# Altium footprint library IC_SMT.PcbLib: 81 footprints (part 2 of 6)
Each footprint in its own frame and in the unit in brackets; x right, y up, seen from the top. Pads: shape width x height; smd on the part's side, far side on the other; paste and mask are expansions set on the pad; w line width, h text height; cw(c..) or ccw(c..) is an arc to the next point about the centre after c.
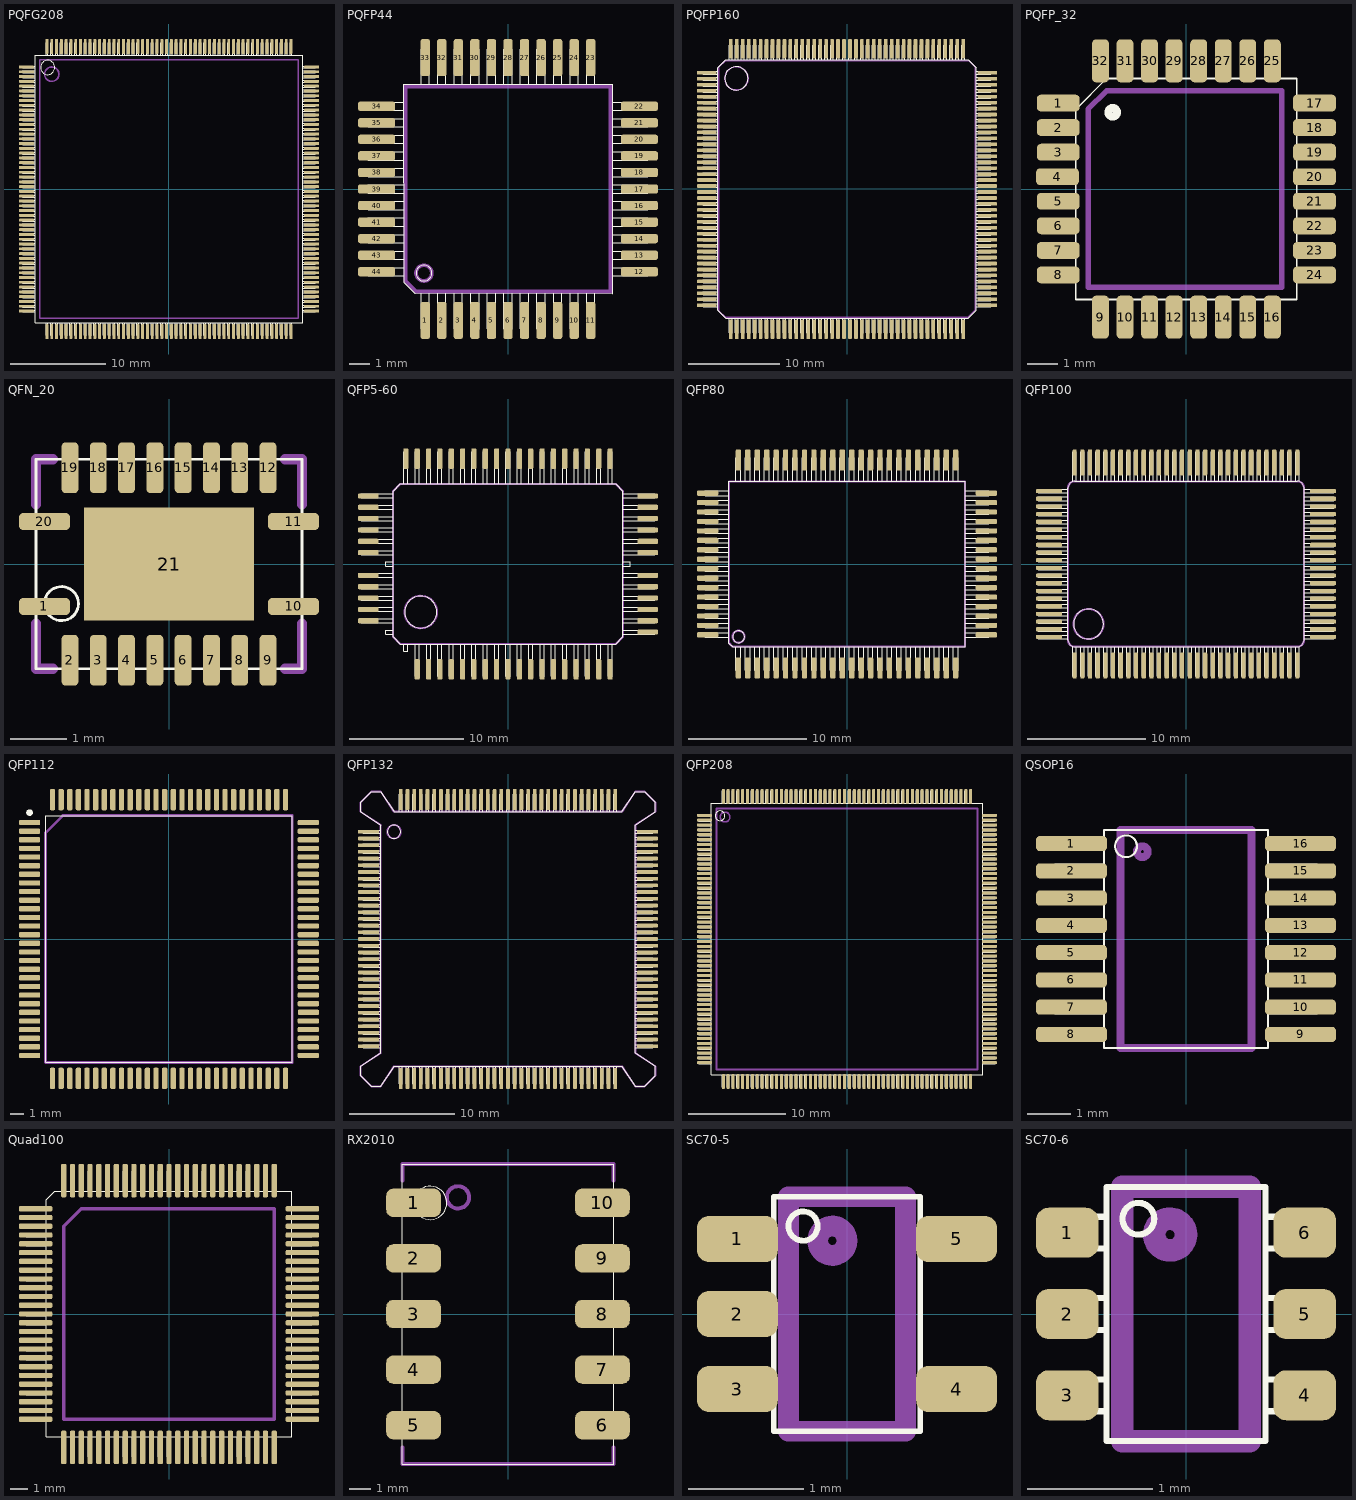
[diagram p1: the footprints below, top view; thin cyan lines are the x and y axes]

## PQFG208 [mm] "208-Pin Plastic Quad Flat Pack (PQG208) - Pb-Free"
height 4.1
pads (208):
  rrect50% 1.55x0.3 smd: 1(-14.9,12.75) 2(-14.9,12.25) 3(-14.9,11.75) 4(-14.9,11.25) 5(-14.9,10.75) 6(-14.9,10.25) 7(-14.9,9.75) 8(-14.9,9.25) 9(-14.9,8.75) 10(-14.9,8.25) 11(-14.9,7.75) 12(-14.9,7.25) 13(-14.9,6.75) 14(-14.9,6.25) 15(-14.9,5.75) 16(-14.9,5.25) 17(-14.9,4.75) 18(-14.9,4.25) 19(-14.9,3.75) 20(-14.9,3.25) 21(-14.9,2.75) 22(-14.9,2.25) 23(-14.9,1.75) 24(-14.9,1.25) 25(-14.9,0.75) 26(-14.9,0.25) 27(-14.9,-0.25) 28(-14.9,-0.75) 29(-14.9,-1.25) 30(-14.9,-1.75) 31(-14.9,-2.25) 32(-14.9,-2.75) 33(-14.9,-3.25) 34(-14.9,-3.75) 35(-14.9,-4.25) 36(-14.9,-4.75) 37(-14.9,-5.25) 38(-14.9,-5.75) 39(-14.9,-6.25) 40(-14.9,-6.75) 41(-14.9,-7.25) 42(-14.9,-7.75) 43(-14.9,-8.25) 44(-14.9,-8.75) 45(-14.9,-9.25) 46(-14.9,-9.75) 47(-14.9,-10.25) 48(-14.9,-10.75) 49(-14.9,-11.25) 50(-14.9,-11.75) 51(-14.9,-12.25) 52(-14.9,-12.75) 105(14.9,-12.75) 106(14.9,-12.25) 107(14.9,-11.75) 108(14.9,-11.25) 109(14.9,-10.75) 110(14.9,-10.25) 111(14.9,-9.75) 112(14.9,-9.25) 113(14.9,-8.75) 114(14.9,-8.25) 115(14.9,-7.75) 116(14.9,-7.25) 117(14.9,-6.75) 118(14.9,-6.25) 119(14.9,-5.75) 120(14.9,-5.25) 121(14.9,-4.75) 122(14.9,-4.25) 123(14.9,-3.75) 124(14.9,-3.25) 125(14.9,-2.75) 126(14.9,-2.25) 127(14.9,-1.75) 128(14.9,-1.25) 129(14.9,-0.75) 130(14.9,-0.25) 131(14.9,0.25) 132(14.9,0.75) 133(14.9,1.25) 134(14.9,1.75) 135(14.9,2.25) 136(14.9,2.75) 137(14.9,3.25) 138(14.9,3.75) 139(14.9,4.25) 140(14.9,4.75) 141(14.9,5.25) 142(14.9,5.75) 143(14.9,6.25) 144(14.9,6.75) 145(14.9,7.25) 146(14.9,7.75) 147(14.9,8.25) 148(14.9,8.75) 149(14.9,9.25) 150(14.9,9.75) 151(14.9,10.25) 152(14.9,10.75) 153(14.9,11.25) 154(14.9,11.75) 155(14.9,12.25) 156(14.9,12.75)
  rrect50% 0.3x1.55 smd: 53(-12.75,-14.9) 54(-12.25,-14.9) 55(-11.75,-14.9) 56(-11.25,-14.9) 57(-10.75,-14.9) 58(-10.25,-14.9) 59(-9.75,-14.9) 60(-9.25,-14.9) 61(-8.75,-14.9) 62(-8.25,-14.9) 63(-7.75,-14.9) 64(-7.25,-14.9) 65(-6.75,-14.9) 66(-6.25,-14.9) 67(-5.75,-14.9) 68(-5.25,-14.9) 69(-4.75,-14.9) 70(-4.25,-14.9) 71(-3.75,-14.9) 72(-3.25,-14.9) 73(-2.75,-14.9) 74(-2.25,-14.9) 75(-1.75,-14.9) 76(-1.25,-14.9) 77(-0.75,-14.9) 78(-0.25,-14.9) 79(0.25,-14.9) 80(0.75,-14.9) 81(1.25,-14.9) 82(1.75,-14.9) 83(2.25,-14.9) 84(2.75,-14.9) 85(3.25,-14.9) 86(3.75,-14.9) 87(4.25,-14.9) 88(4.75,-14.9) 89(5.25,-14.9) 90(5.75,-14.9) 91(6.25,-14.9) 92(6.75,-14.9) 93(7.25,-14.9) 94(7.75,-14.9) 95(8.25,-14.9) 96(8.75,-14.9) 97(9.25,-14.9) 98(9.75,-14.9) 99(10.25,-14.9) 100(10.75,-14.9) 101(11.25,-14.9) 102(11.75,-14.9) 103(12.25,-14.9) 104(12.75,-14.9) 157(12.75,14.9) 158(12.25,14.9) 159(11.75,14.9) 160(11.25,14.9) 161(10.75,14.9) 162(10.25,14.9) 163(9.75,14.9) 164(9.25,14.9) 165(8.75,14.9) 166(8.25,14.9) 167(7.75,14.9) 168(7.25,14.9) 169(6.75,14.9) 170(6.25,14.9) 171(5.75,14.9) 172(5.25,14.9) 173(4.75,14.9) 174(4.25,14.9) 175(3.75,14.9) 176(3.25,14.9) 177(2.75,14.9) 178(2.25,14.9) 179(1.75,14.9) 180(1.25,14.9) 181(0.75,14.9) 182(0.25,14.9) 183(-0.25,14.9) 184(-0.75,14.9) 185(-1.25,14.9) 186(-1.75,14.9) 187(-2.25,14.9) 188(-2.75,14.9) 189(-3.25,14.9) 190(-3.75,14.9) 191(-4.25,14.9) 192(-4.75,14.9) 193(-5.25,14.9) 194(-5.75,14.9) 195(-6.25,14.9) 196(-6.75,14.9) 197(-7.25,14.9) 198(-7.75,14.9) 199(-8.25,14.9) 200(-8.75,14.9) 201(-9.25,14.9) 202(-9.75,14.9) 203(-10.25,14.9) 204(-10.75,14.9) 205(-11.25,14.9) 206(-11.75,14.9) 207(-12.25,14.9) 208(-12.75,14.9)
Top Overlay:
  drawing of 629 lines, arcs and shapes, not listed
Comp Silk:
  circle w0.18: c-12.25,12 r0.75
  lines w0.18: -13.5,-13.5 13.5,-13.5 13.5,13.5 -13.5,13.5 -13.5,-13.5
  text ".Designator" at -6,9 h1.5

## PQFP44 [mm]
height 2.54
pads (44):
  rrect50% 0.45x1.8 smd paste+0: 1(-4,-6.35) 2(-3.2,-6.35) 3(-2.4,-6.35) 4(-1.6,-6.35) 5(-0.8,-6.35) 6(0,-6.35) 7(0.8,-6.35) 8(1.6,-6.35) 9(2.4,-6.35) 10(3.2,-6.35) 11(4,-6.35) 23(4,6.35) 24(3.2,6.35) 25(2.4,6.35) 26(1.6,6.35) 27(0.8,6.35) 28(0,6.35) 29(-0.8,6.35) 30(-1.6,6.35) 31(-2.4,6.35) 32(-3.2,6.35) 33(-4,6.35)
  rrect50% 1.8x0.45 smd paste+0: 12(6.35,-4) 13(6.35,-3.2) 14(6.35,-2.4) 15(6.35,-1.6) 16(6.35,-0.8) 17(6.35,0) 18(6.35,0.8) 19(6.35,1.6) 20(6.35,2.4) 21(6.35,3.2) 22(6.35,4) 34(-6.35,4) 35(-6.35,3.2) 36(-6.35,2.4) 37(-6.35,1.6) 38(-6.35,0.8) 39(-6.35,0) 40(-6.35,-0.8) 41(-6.35,-1.6) 42(-6.35,-2.4) 43(-6.35,-3.2) 44(-6.35,-4)
Top Overlay:
  lines w0.05: -5.05,-4.2 -6.75,-4.2 -6.75,-3.8 -5.05,-3.8 ; -5.05,-3.4 -6.75,-3.4 -6.75,-3 -5.05,-3 ; -5.05,-2.6 -6.75,-2.6 -6.75,-2.2 -5.05,-2.2 ; -5.05,-1.8 -6.75,-1.8 -6.75,-1.4 -5.05,-1.4 ; -5.05,-1 -6.75,-1 -6.75,-0.6 -5.05,-0.6 ; -5.05,-0.2 -6.75,-0.2 -6.75,0.2 -5.05,0.2 ; -5.05,0.6 -6.75,0.6 -6.75,1 -5.05,1 ; -5.05,1.4 -6.75,1.4 -6.75,1.8 -5.05,1.8 ; -5.05,2.2 -6.75,2.2 -6.75,2.6 -5.05,2.6 ; -5.05,3 -6.75,3 -6.75,3.4 -5.05,3.4 ; -5.05,3.8 -6.75,3.8 -6.75,4.2 -5.05,4.2 ; -4.2,-5.05 -4.2,-6.75 -3.8,-6.75 -3.8,-5.05 ; -4.2,5.05 -4.2,6.75 -3.8,6.75 -3.8,5.05 ; -3.4,-5.05 -3.4,-6.75 -3,-6.75 -3,-5.05 ; -3.4,5.05 -3.4,6.75 -3,6.75 -3,5.05 ; -2.6,-5.05 -2.6,-6.75 -2.2,-6.75 -2.2,-5.05 ; -2.6,5.05 -2.6,6.75 -2.2,6.75 -2.2,5.05 ; -1.8,-5.05 -1.8,-6.75 -1.4,-6.75 -1.4,-5.05 ; -1.8,5.05 -1.8,6.75 -1.4,6.75 -1.4,5.05 ; -1,-5.05 -1,-6.75 -0.6,-6.75 -0.6,-5.05 ; -1,5.05 -1,6.75 -0.6,6.75 -0.6,5.05 ; -0.2,-5.05 -0.2,-6.75 0.2,-6.75 0.2,-5.05 ; -0.2,5.05 -0.2,6.75 0.2,6.75 0.2,5.05 ; 0.6,-5.05 0.6,-6.75 1,-6.75 1,-5.05 ; 0.6,5.05 0.6,6.75 1,6.75 1,5.05 ; 1.4,-5.05 1.4,-6.75 1.8,-6.75 1.8,-5.05 ; 1.4,5.05 1.4,6.75 1.8,6.75 1.8,5.05 ; 2.2,-5.05 2.2,-6.75 2.6,-6.75 2.6,-5.05 ; 2.2,5.05 2.2,6.75 2.6,6.75 2.6,5.05 ; 3,-5.05 3,-6.75 3.4,-6.75 3.4,-5.05 ; 3,5.05 3,6.75 3.4,6.75 3.4,5.05 ; 3.8,-5.05 3.8,-6.75 4.2,-6.75 4.2,-5.05 ; 3.8,5.05 3.8,6.75 4.2,6.75 4.2,5.05 ; 5.05,-4.2 6.75,-4.2 6.75,-3.8 5.05,-3.8 ; 5.05,-3.4 6.75,-3.4 6.75,-3 5.05,-3 ; 5.05,-2.6 6.75,-2.6 6.75,-2.2 5.05,-2.2 ; 5.05,-1.8 6.75,-1.8 6.75,-1.4 5.05,-1.4 ; 5.05,-1 6.75,-1 6.75,-0.6 5.05,-0.6 ; 5.05,-0.2 6.75,-0.2 6.75,0.2 5.05,0.2 ; 5.05,0.6 6.75,0.6 6.75,1 5.05,1 ; 5.05,1.4 6.75,1.4 6.75,1.8 5.05,1.8 ; 5.05,2.2 6.75,2.2 6.75,2.6 5.05,2.6 ; 5.05,3 6.75,3 6.75,3.4 5.05,3.4 ; 5.05,3.8 6.75,3.8 6.75,4.2 5.05,4.2 ; -5.055,5.055 -5.05,-4.5 -4.5,-5.05 5.055,-5.055 5.055,5.055 -5.055,5.055 ; -4.064,-4.445 cw(c-4.064,-4.064) -4.064,-3.683 cw(c-4.064,-4.064) -4.064,-4.445
Comp Silk:
  lines w0.18: -4.953,-4.445 -4.445,-4.953 4.953,-4.953 4.953,4.953 -4.953,4.953 -4.953,-4.445 ; -4.064,-4.445 ccw(c-4.064,-4.064) -4.064,-3.683 ccw(c-4.064,-4.064) -4.064,-4.445
  text ".Designator" at -3.81,2.667 h1.5

## PQFP160 [mm]
height 4.191
pads (160):
  rrect50% 2.1x0.4 smd paste+0: 1(-15.316,12.675) 2(-15.316,12.025) 3(-15.316,11.375) 4(-15.316,10.725) 5(-15.316,10.075) 6(-15.316,9.425) 7(-15.316,8.775) 8(-15.316,8.125) 9(-15.316,7.475) 10(-15.316,6.825) 11(-15.316,6.175) 12(-15.316,5.525) 13(-15.316,4.875) 14(-15.316,4.225) 15(-15.316,3.575) 16(-15.316,2.925) 17(-15.316,2.275) 18(-15.316,1.625) 19(-15.316,0.975) 20(-15.316,0.325) 21(-15.316,-0.325) 22(-15.316,-0.975) 23(-15.316,-1.625) 24(-15.316,-2.275) 25(-15.316,-2.925) 26(-15.316,-3.575) 27(-15.316,-4.225) 28(-15.316,-4.875) 29(-15.316,-5.525) 30(-15.316,-6.175) 31(-15.316,-6.825) 32(-15.316,-7.475) 33(-15.316,-8.125) 34(-15.316,-8.775) 35(-15.316,-9.425) 36(-15.316,-10.075) 37(-15.316,-10.725) 38(-15.316,-11.375) 39(-15.316,-12.025) 40(-15.316,-12.675) 81(15.308,-12.675) 82(15.308,-12.025) 83(15.308,-11.375) 84(15.308,-10.725) 85(15.308,-10.075) 86(15.308,-9.425) 87(15.308,-8.775) 88(15.308,-8.125) 89(15.308,-7.475) 90(15.308,-6.825) 91(15.308,-6.175) 92(15.308,-5.525) 93(15.308,-4.875) 94(15.308,-4.225) 95(15.308,-3.575) 96(15.308,-2.925) 97(15.308,-2.275) 98(15.308,-1.625) 99(15.308,-0.975) 100(15.308,-0.325) 101(15.308,0.325) 102(15.308,0.975) 103(15.308,1.625) 104(15.308,2.275) 105(15.308,2.925) 106(15.308,3.575) 107(15.308,4.225) 108(15.308,4.875) 109(15.308,5.525) 110(15.308,6.175) 111(15.308,6.825) 112(15.308,7.475) 113(15.308,8.125) 114(15.308,8.775) 115(15.308,9.425) 116(15.308,10.075) 117(15.308,10.725) 118(15.308,11.375) 119(15.308,12.025) 120(15.308,12.675)
  rrect50% 0.4x2.1 smd paste+0: 41(-12.679,-15.313) 42(-12.029,-15.313) 43(-11.379,-15.313) 44(-10.729,-15.313) 45(-10.079,-15.313) 46(-9.429,-15.313) 47(-8.779,-15.313) 48(-8.129,-15.313) 49(-7.479,-15.313) 50(-6.829,-15.313) 51(-6.179,-15.313) 52(-5.529,-15.313) 53(-4.879,-15.313) 54(-4.229,-15.313) 55(-3.579,-15.313) 56(-2.929,-15.313) 57(-2.279,-15.313) 58(-1.629,-15.313) 59(-0.979,-15.313) 60(-0.329,-15.313) 61(0.321,-15.313) 62(0.971,-15.313) 63(1.621,-15.313) 64(2.271,-15.313) 65(2.921,-15.313) 66(3.571,-15.313) 67(4.221,-15.313) 68(4.871,-15.313) 69(5.521,-15.313) 70(6.171,-15.313) 71(6.821,-15.313) 72(7.471,-15.313) 73(8.121,-15.313) 74(8.771,-15.313) 75(9.421,-15.313) 76(10.071,-15.313) 77(10.721,-15.313) 78(11.371,-15.313) 79(12.021,-15.313) 80(12.671,-15.313) 121(12.671,15.312) 122(12.021,15.312) 123(11.371,15.312) 124(10.721,15.312) 125(10.071,15.312) 126(9.421,15.312) 127(8.771,15.312) 128(8.121,15.312) 129(7.471,15.312) 130(6.821,15.312) 131(6.171,15.312) 132(5.521,15.312) 133(4.871,15.312) 134(4.221,15.312) 135(3.571,15.312) 136(2.921,15.312) 137(2.271,15.312) 138(1.621,15.312) 139(0.971,15.312) 140(0.321,15.312) 141(-0.329,15.312) 142(-0.979,15.312) 143(-1.629,15.312) 144(-2.279,15.312) 145(-2.929,15.312) 146(-3.579,15.312) 147(-4.229,15.312) 148(-4.879,15.312) 149(-5.529,15.312) 150(-6.179,15.312) 151(-6.829,15.312) 152(-7.479,15.312) 153(-8.129,15.312) 154(-8.779,15.312) 155(-9.429,15.312) 156(-10.079,15.312) 157(-10.729,15.312) 158(-11.379,15.312) 159(-12.029,15.312) 160(-12.679,15.312)
Top Overlay:
  drawing of 489 lines, arcs and shapes, not listed
Comp Silk:
  circle w0.18: c-12.065,12.065 r1.27
  lines w0.18: -14,-13.3 -13.3,-14 13.2,-14 14,-13.2 14,13.3 13.3,14 -13.3,14 -14,13.3 -14,-13.3
  text ".Designator" at -10.033,8.636 h1.5

## PQFP_32 [mm] "Texas 0.8mm 32 pin pitch plastic quad flatpack, Rev. 2"
height 1.6
pads (32):
  rrect50% 1.4x0.55 smd: 1(-4.175,2.8) 2(-4.175,2) 3(-4.175,1.2) 4(-4.2,0.4) 5(-4.175,-0.4) 6(-4.175,-1.2) 7(-4.175,-2) 8(-4.175,-2.8) 17(4.175,2.8) 18(4.175,2) 19(4.175,1.2) 20(4.175,0.4) 21(4.175,-0.4) 22(4.175,-1.2) 23(4.175,-2) 24(4.175,-2.8)
  rrect50% 0.55x1.4 smd: 9(-2.8,-4.175) 10(-2,-4.175) 11(-1.2,-4.175) 12(-0.4,-4.175) 13(0.4,-4.175) 14(1.2,-4.175) 15(2,-4.175) 16(2.8,-4.175) 25(2.8,4.175) 26(2,4.175) 27(1.2,4.175) 28(0.4,4.175) 29(-0.4,4.175) 30(-1.2,4.175) 31(-2,4.175) 32(-2.8,4.175)
Top Overlay:
  circle w0.254: c-2.4,2.5 r0.141
  lines w0.05: -3.6,-3.6 -3.6,2.6 -2.6,3.6 -0.6,3.6 3.6,3.6 3.6,-3.6 -3.6,-3.6
Comp Silk:
  lines w0.18: -3.2,-3.2 -3.2,2.6 -2.6,3.2 3.1,3.2 3.1,-3.2 -3.2,-3.2
  text ".Designator" at -2.6,-0.5 h1.5

## QFN_20 [mm]
height 1
pads (21):
  rrect50% 0.9x0.3 smd paste+0: 1(-2.2,-0.75) 10(2.2,-0.75) 11(2.2,0.75) 20(-2.2,0.75)
  rrect50% 0.3x0.9 smd paste+0: 2(-1.75,-1.7) 3(-1.25,-1.7) 4(-0.75,-1.7) 5(-0.25,-1.7) 6(0.25,-1.7) 7(0.75,-1.7) 8(1.25,-1.7) 9(1.75,-1.7) 12(1.75,1.7) 13(1.25,1.7) 14(0.75,1.7) 15(0.25,1.7) 16(-0.25,1.7) 17(-0.75,1.7) 18(-1.25,1.7) 19(-1.75,1.7)
  rect 3x2 all layers, no hole: 21(0,0)
Top Overlay:
  circle w0.05: c-1.9,-0.7 r0.3
  lines w0.05: -2.35,-1.85 2.35,-1.85 2.35,1.85 -2.35,1.85 -2.35,-1.85
Top Solder:
  rectangle: 1.55,-0.4 2.5,0.4
  rectangle: -2.5,-0.4 -1.55,0.4
Comp Silk:
  lines w0.18: -2.35,-1.05 -2.35,-1.85 -2.05,-1.85 ; -2.35,1.05 -2.35,1.85 -2.05,1.85 ; 2.05,-1.85 2.35,-1.85 2.35,-1.05 ; 2.05,1.85 2.35,1.85 2.35,1.05
  text ".Designator" at -1.8,-0.65 h1.5

## QFP5-60 [mm]
pads (60):
  rrect50% 1.8x0.45 smd paste+0: 1(-12.192,-0.991) 2(-12.192,-1.981) 3(-12.192,-2.972) 4(-12.192,-3.962) 5(-12.192,-4.953) 24(12.192,-5.944) 25(12.192,-4.953) 26(12.192,-3.962) 27(12.192,-2.972) 28(12.192,-1.981) 29(12.192,-0.991) 30(12.192,0.991) 31(12.192,1.981) 32(12.192,2.972) 33(12.192,3.962) 34(12.192,4.953) 35(12.192,5.944) 55(-12.192,5.944) 56(-12.192,4.953) 57(-12.192,3.962) 58(-12.192,2.972) 59(-12.192,1.981) 60(-12.192,0.991)
  rrect50% 0.45x1.8 smd paste+0: 6(-7.925,-9.195) 7(-6.934,-9.195) 8(-5.944,-9.195) 9(-4.953,-9.195) 10(-3.962,-9.195) 11(-2.972,-9.195) 12(-1.981,-9.195) 13(-0.991,-9.195) 14(0,-9.195) 15(0.991,-9.195) 16(1.981,-9.195) 17(2.972,-9.195) 18(3.962,-9.195) 19(4.953,-9.195) 20(5.944,-9.195) 21(6.934,-9.195) 22(7.925,-9.195) 23(8.915,-9.195) 36(8.915,9.195) 37(7.925,9.195) 38(6.934,9.195) 39(5.944,9.195) 40(4.953,9.195) 41(3.962,9.195) 42(2.972,9.195) 43(1.981,9.195) 44(0.991,9.195) 45(0,9.195) 46(-0.991,9.195) 47(-1.981,9.195) 48(-2.972,9.195) 49(-3.962,9.195) 50(-4.953,9.195) 51(-5.944,9.195) 52(-6.934,9.195) 53(-7.925,9.195) 54(-8.915,9.195)
Top Overlay:
  drawing of 202 lines, arcs and shapes, not listed
Comp Silk:
  circle w0.18: c-7.62,-4.191 r1.42
  lines w0.18: -10.033,-6.35 -10.033,6.35 -9.398,6.985 9.398,6.985 10.033,6.35 10.033,-6.35 9.398,-6.985 -9.398,-6.985 -10.033,-6.35
  text ".Designator" at -7.747,3.81 h1.5

## QFP80 [mm]
height 2.54
pads (80):
  rrect50% 0.45x1.8 smd paste+0: 1(-9.2,-8.8) 2(-8.4,-8.8) 3(-7.6,-8.8) 4(-6.8,-8.8) 5(-6,-8.8) 6(-5.2,-8.8) 7(-4.4,-8.8) 8(-3.6,-8.8) 9(-2.8,-8.8) 10(-2,-8.8) 11(-1.2,-8.8) 12(-0.4,-8.8) 13(0.4,-8.8) 14(1.2,-8.8) 15(2,-8.8) 16(2.8,-8.8) 17(3.6,-8.8) 18(4.4,-8.8) 19(5.2,-8.8) 20(6,-8.8) 21(6.8,-8.8) 22(7.6,-8.8) 23(8.4,-8.8) 24(9.2,-8.8) 41(9.2,8.8) 42(8.4,8.8) 43(7.6,8.8) 44(6.8,8.8) 45(6,8.8) 46(5.2,8.8) 47(4.4,8.8) 48(3.6,8.8) 49(2.8,8.8) 50(2,8.8) 51(1.2,8.8) 52(0.4,8.8) 53(-0.4,8.8) 54(-1.2,8.8) 55(-2,8.8) 56(-2.8,8.8) 57(-3.6,8.8) 58(-4.4,8.8) 59(-5.2,8.8) 60(-6,8.8) 61(-6.8,8.8) 62(-7.6,8.8) 63(-8.4,8.8) 64(-9.2,8.8)
  rrect50% 1.8x0.45 smd paste+0: 25(11.8,-6) 26(11.8,-5.2) 27(11.8,-4.4) 28(11.8,-3.6) 29(11.8,-2.8) 30(11.8,-2) 31(11.8,-1.2) 32(11.8,-0.4) 33(11.8,0.4) 34(11.8,1.2) 35(11.8,2) 36(11.8,2.8) 37(11.8,3.6) 38(11.8,4.4) 39(11.8,5.2) 40(11.8,6) 65(-11.8,6) 66(-11.8,5.2) 67(-11.8,4.4) 68(-11.8,3.6) 69(-11.8,2.8) 70(-11.8,2) 71(-11.8,1.2) 72(-11.8,0.4) 73(-11.8,-0.4) 74(-11.8,-1.2) 75(-11.8,-2) 76(-11.8,-2.8) 77(-11.8,-3.6) 78(-11.8,-4.4) 79(-11.8,-5.2) 80(-11.8,-6)
Top Overlay:
  drawing of 247 lines, arcs and shapes, not listed
Comp Silk:
  lines w0.18: -9.995,-6.694 -9.995,6.997 9.995,6.997 9.995,-6.998 -9.69,-6.998 -9.995,-6.694 ; -9.184,-6.663 cw(c-9.184,-6.155) -9.184,-5.647 cw(c-9.184,-6.155) -9.184,-6.663
  text ".Designator" at -7.747,4.064 h1.5

## QFP100 [mm]
height 2.54
pads (100):
  rrect50% 0.35x2.2 smd paste+0: 1(-9.425,-8.6) 2(-8.775,-8.6) 3(-8.125,-8.6) 4(-7.475,-8.6) 5(-6.825,-8.6) 6(-6.175,-8.6) 7(-5.525,-8.6) 8(-4.875,-8.6) 9(-4.225,-8.6) 10(-3.575,-8.6) 11(-2.925,-8.6) 12(-2.275,-8.6) 13(-1.625,-8.6) 14(-0.975,-8.6) 15(-0.325,-8.6) 16(0.325,-8.6) 17(0.975,-8.6) 18(1.625,-8.6) 19(2.275,-8.6) 20(2.925,-8.6) 21(3.575,-8.6) 22(4.225,-8.6) 23(4.875,-8.6) 24(5.525,-8.6) 25(6.175,-8.6) 26(6.825,-8.6) 27(7.475,-8.6) 28(8.125,-8.6) 29(8.775,-8.6) 30(9.425,-8.6) 51(9.425,8.6) 52(8.775,8.6) 53(8.125,8.6) 54(7.475,8.6) 55(6.825,8.6) 56(6.175,8.6) 57(5.525,8.6) 58(4.875,8.6) 59(4.225,8.6) 60(3.575,8.6) 61(2.925,8.6) 62(2.275,8.6) 63(1.625,8.6) 64(0.975,8.6) 65(0.325,8.6) 66(-0.325,8.6) 67(-0.975,8.6) 68(-1.625,8.6) 69(-2.275,8.6) 70(-2.925,8.6) 71(-3.575,8.6) 72(-4.225,8.6) 73(-4.875,8.6) 74(-5.525,8.6) 75(-6.175,8.6) 76(-6.825,8.6) 77(-7.475,8.6) 78(-8.125,8.6) 79(-8.775,8.6) 80(-9.425,8.6)
  rrect50% 2.2x0.35 smd paste+0: 31(11.6,-6.175) 32(11.6,-5.525) 33(11.6,-4.875) 34(11.6,-4.225) 35(11.6,-3.575) 36(11.6,-2.925) 37(11.6,-2.275) 38(11.6,-1.625) 39(11.6,-0.975) 40(11.6,-0.325) 41(11.6,0.325) 42(11.6,0.975) 43(11.6,1.625) 44(11.6,2.275) 45(11.6,2.925) 46(11.6,3.575) 47(11.6,4.225) 48(11.6,4.875) 49(11.6,5.525) 50(11.6,6.175) 81(-11.6,6.175) 82(-11.6,5.525) 83(-11.6,4.875) 84(-11.6,4.225) 85(-11.6,3.575) 86(-11.6,2.925) 87(-11.6,2.275) 88(-11.6,1.625) 89(-11.6,0.975) 90(-11.6,0.325) 91(-11.6,-0.325) 92(-11.6,-0.975) 93(-11.6,-1.625) 94(-11.6,-2.275) 95(-11.6,-2.925) 96(-11.6,-3.575) 97(-11.6,-4.225) 98(-11.6,-4.875) 99(-11.6,-5.525) 100(-11.6,-6.175)
Top Overlay:
  drawing of 289 lines, arcs and shapes, not listed
Comp Silk:
  circle w0.18: c-8.255,-5.08 r1.27
  lines w0.18: -10,-6.4 ccw(c-9.4,-6.4) -9.4,-7 9.4,-7 ccw(c9.4,-6.4) 10,-6.4 10,6.4 ccw(c9.4,6.4) 9.4,7 -9.4,7 ccw(c-9.4,6.4) -10,6.4 -10,-6.4
  text ".Designator" at -6.731,4.572 h1.5

## QFP112 [mm] "QFP; 112 Leads; Body 20 x 20 mm; Pitch 0.65 mm. Rev. 1"
height 1.6
pads (112):
  rrect50% 1.6x0.4 smd: 1(-10.5,8.775) 2(-10.5,8.125) 3(-10.5,7.475) 4(-10.5,6.825) 5(-10.5,6.175) 6(-10.5,5.525) 7(-10.5,4.875) 8(-10.5,4.225) 9(-10.5,3.575) 10(-10.5,2.925) 11(-10.5,2.275) 12(-10.5,1.625) 13(-10.5,0.975) 14(-10.5,0.325) 15(-10.5,-0.325) 16(-10.5,-0.975) 17(-10.5,-1.625) 18(-10.5,-2.275) 19(-10.5,-2.925) 20(-10.5,-3.575) 21(-10.5,-4.225) 22(-10.5,-4.875) 23(-10.5,-5.525) 24(-10.5,-6.175) 25(-10.5,-6.825) 26(-10.5,-7.475) 27(-10.5,-8.125) 28(-10.5,-8.775) 57(10.5,-8.775) 58(10.5,-8.125) 59(10.5,-7.475) 60(10.5,-6.825) 61(10.5,-6.175) 62(10.505,-5.525) 63(10.5,-4.875) 64(10.5,-4.225) 65(10.5,-3.575) 66(10.5,-2.925) 67(10.5,-2.275) 68(10.5,-1.625) 69(10.5,-0.975) 70(10.5,-0.325) 71(10.5,0.325) 72(10.5,0.975) 73(10.5,1.625) 74(10.5,2.275) 75(10.5,2.925) 76(10.5,3.575) 77(10.5,4.225) 78(10.5,4.875) 79(10.5,5.525) 80(10.5,6.175) 81(10.5,6.825) 82(10.5,7.475) 83(10.5,8.125) 84(10.5,8.775)
  rrect50% 0.4x1.6 smd: 29(-8.775,-10.5) 30(-8.125,-10.5) 31(-7.475,-10.5) 32(-6.825,-10.5) 33(-6.175,-10.5) 34(-5.525,-10.5) 35(-4.875,-10.5) 36(-4.225,-10.5) 37(-3.575,-10.5) 38(-2.925,-10.5) 39(-2.275,-10.5) 40(-1.625,-10.5) 41(-0.975,-10.5) 42(-0.325,-10.5) 43(0.325,-10.5) 44(0.975,-10.5) 45(1.625,-10.5) 46(2.275,-10.5) 47(2.925,-10.5) 48(3.575,-10.5) 49(4.225,-10.5) 50(4.875,-10.5) 51(5.525,-10.5) 52(6.175,-10.5) 53(6.825,-10.5) 54(7.475,-10.5) 55(8.125,-10.5) 56(8.775,-10.5) 85(8.775,10.5) 86(8.125,10.5) 87(7.475,10.5) 88(6.825,10.5) 89(6.175,10.5) 90(5.525,10.5) 91(4.875,10.5) 92(4.225,10.5) 93(3.575,10.5) 94(2.925,10.5) 95(2.275,10.5) 96(1.625,10.5) 97(0.975,10.5) 98(0.325,10.5) 99(-0.325,10.5) 100(-0.975,10.5) 101(-1.625,10.5) 102(-2.275,10.5) 103(-2.925,10.5) 104(-3.575,10.5) 105(-4.225,10.5) 106(-4.875,10.5) 107(-5.525,10.5) 108(-6.175,10.5) 109(-6.825,10.5) 110(-7.475,10.5) 111(-8.125,10.5) 112(-8.775,10.5)
Top Overlay:
  circle w0.25: c-10.505,9.525 r0.125
  lines w0.05: -9.3,-9.3 -9.3,9.3 9.3,9.3 9.3,-9.3 -9.3,-9.3
Comp Silk:
  lines w0.2: -9.3,-9.3 -9.3,8 -8,9.3 9.3,9.3 9.3,-9.3 -9.3,-9.3
  text ".Designator" at -6.8,-0.2 h1.5

## QFP132 [mm]
height 4.318
pads (132):
  rrect50% 2x0.35 smd paste+0: 1(-13.208,10.16) 2(-13.208,9.525) 3(-13.208,8.89) 4(-13.208,8.255) 5(-13.208,7.62) 6(-13.208,6.985) 7(-13.208,6.35) 8(-13.208,5.715) 9(-13.208,5.08) 10(-13.208,4.445) 11(-13.208,3.81) 12(-13.208,3.175) 13(-13.208,2.54) 14(-13.208,1.905) 15(-13.208,1.27) 16(-13.208,0.635) 17(-13.208,0) 18(-13.208,-0.635) 19(-13.208,-1.27) 20(-13.208,-1.905) 21(-13.208,-2.54) 22(-13.208,-3.175) 23(-13.208,-3.81) 24(-13.208,-4.445) 25(-13.208,-5.08) 26(-13.208,-5.715) 27(-13.208,-6.35) 28(-13.208,-6.985) 29(-13.208,-7.62) 30(-13.208,-8.255) 31(-13.208,-8.89) 32(-13.208,-9.525) 33(-13.208,-10.16) 67(13.208,-10.16) 68(13.208,-9.525) 69(13.208,-8.89) 70(13.208,-8.255) 71(13.208,-7.62) 72(13.208,-6.985) 73(13.208,-6.35) 74(13.208,-5.715) 75(13.208,-5.08) 76(13.208,-4.445) 77(13.208,-3.81) 78(13.208,-3.175) 79(13.208,-2.54) 80(13.208,-1.905) 81(13.208,-1.27) 82(13.208,-0.635) 83(13.208,0) 84(13.208,0.635) 85(13.208,1.27) 86(13.208,1.905) 87(13.208,2.54) 88(13.208,3.175) 89(13.208,3.81) 90(13.208,4.445) 91(13.208,5.08) 92(13.208,5.715) 93(13.208,6.35) 94(13.208,6.985) 95(13.208,7.62) 96(13.208,8.255) 97(13.208,8.89) 98(13.208,9.525) 99(13.208,10.16)
  rrect50% 0.35x2 smd paste+0: 34(-10.16,-13.208) 35(-9.525,-13.208) 36(-8.89,-13.208) 37(-8.255,-13.208) 38(-7.62,-13.208) 39(-6.985,-13.208) 40(-6.35,-13.208) 41(-5.715,-13.208) 42(-5.08,-13.208) 43(-4.445,-13.208) 44(-3.81,-13.208) 45(-3.175,-13.208) 46(-2.54,-13.208) 47(-1.905,-13.208) 48(-1.27,-13.208) 49(-0.635,-13.208) 50(0,-13.208) 51(0.635,-13.208) 52(1.27,-13.208) 53(1.905,-13.208) 54(2.54,-13.208) 55(3.175,-13.208) 56(3.81,-13.208) 57(4.445,-13.208) 58(5.08,-13.208) 59(5.715,-13.208) 60(6.35,-13.208) 61(6.985,-13.208) 62(7.62,-13.208) 63(8.255,-13.208) 64(8.89,-13.208) 65(9.525,-13.208) 66(10.16,-13.208) 100(10.16,13.208) 101(9.525,13.208) 102(8.89,13.208) 103(8.255,13.208) 104(7.62,13.208) 105(6.985,13.208) 106(6.35,13.208) 107(5.715,13.208) 108(5.08,13.208) 109(4.445,13.208) 110(3.81,13.208) 111(3.175,13.208) 112(2.54,13.208) 113(1.905,13.208) 114(1.27,13.208) 115(0.635,13.208) 116(0,13.208) 117(-0.635,13.208) 118(-1.27,13.208) 119(-1.905,13.208) 120(-2.54,13.208) 121(-3.175,13.208) 122(-3.81,13.208) 123(-4.445,13.208) 124(-5.08,13.208) 125(-5.715,13.208) 126(-6.35,13.208) 127(-6.985,13.208) 128(-7.62,13.208) 129(-8.255,13.208) 130(-8.89,13.208) 131(-9.525,13.208) 132(-10.16,13.208)
Top Overlay:
  drawing of 427 lines, arcs and shapes, not listed
Comp Silk:
  lines w0.18: -13.97,-12.954 -12.954,-13.97 -12.065,-13.97 -10.795,-12.065 10.795,-12.065 12.065,-13.97 12.954,-13.97 13.97,-12.954 13.97,-12.065 12.065,-10.795 12.065,10.795 13.97,12.065 13.97,12.954 12.954,13.97 12.065,13.97 10.795,12.065 -10.795,12.065 -12.065,13.97 -12.954,13.97 -13.97,12.954 -13.97,12.065 -12.065,10.795 -12.065,-10.795 -13.97,-12.065 -13.97,-12.954 ; -11.43,10.16 ccw(c-10.795,10.16) -10.16,10.16 ccw(c-10.795,10.16) -11.43,10.16
  text ".Designator" at -5.207,8.763 h1.5

## QFP208 [mil]
height 170
pads (208):
  rrect50% 60x12 smd paste+0: 1(-578.74,501.97) 2(-578.74,482.28) 3(-578.74,462.6) 4(-578.74,442.91) 5(-578.74,423.23) 6(-578.74,403.54) 7(-578.74,383.86) 8(-578.74,364.17) 9(-578.74,344.49) 10(-578.74,324.8) 11(-578.74,305.12) 12(-578.74,285.43) 13(-578.74,265.75) 14(-578.74,246.06) 15(-578.74,226.38) 16(-578.74,206.69) 17(-578.74,187.01) 18(-578.74,167.32) 19(-578.74,147.64) 20(-578.74,127.95) 21(-578.74,108.27) 22(-578.74,88.58) 23(-578.74,68.9) 24(-578.74,49.21) 25(-578.74,29.53) 26(-578.74,9.84) 27(-578.74,-9.84) 28(-578.74,-29.53) 29(-578.74,-49.21) 30(-578.74,-68.9) 31(-578.74,-88.58) 32(-578.74,-108.27) 33(-578.74,-127.95) 34(-578.74,-147.64) 35(-578.74,-167.32) 36(-578.74,-187.01) 37(-578.74,-206.69) 38(-578.74,-226.38) 39(-578.74,-246.06) 40(-578.74,-265.75) 41(-578.74,-285.43) 42(-578.74,-305.12) 43(-578.74,-324.8) 44(-578.74,-344.49) 45(-578.74,-364.17) 46(-578.74,-383.86) 47(-578.74,-403.54) 48(-578.74,-423.23) 49(-578.74,-442.91) 50(-578.74,-462.6) 51(-578.74,-482.28) 52(-578.74,-501.97) 105(578.74,-501.97) 106(578.74,-482.28) 107(578.74,-462.6) 108(578.74,-442.91) 109(578.74,-423.23) 110(578.74,-403.54) 111(578.74,-383.86) 112(578.74,-364.17) 113(578.74,-344.49) 114(578.74,-324.8) 115(578.74,-305.12) 116(578.74,-285.43) 117(578.74,-265.75) 118(578.74,-246.06) 119(578.74,-226.38) 120(578.74,-206.69) 121(578.74,-187.01) 122(578.74,-167.32) 123(578.74,-147.64) 124(578.74,-127.95) 125(578.74,-108.27) 126(578.74,-88.58) 127(578.74,-68.9) 128(578.74,-49.21) 129(578.74,-29.53) 130(578.74,-9.84) 131(578.74,9.84) 132(578.74,29.53) 133(578.74,49.21) 134(578.74,68.9) 135(578.74,88.58) 136(578.74,108.27) 137(578.74,127.95) 138(578.74,147.64) 139(578.74,167.32) 140(578.74,187.01) 141(578.74,206.69) 142(578.74,226.38) 143(578.74,246.06) 144(578.74,265.75) 145(578.74,285.43) 146(578.74,305.12) 147(578.74,324.8) 148(578.74,344.49) 149(578.74,364.17) 150(578.74,383.86) 151(578.74,403.54) 152(578.74,423.23) 153(578.74,442.91) 154(578.74,462.6) 155(578.74,482.28) 156(578.74,501.97)
  rrect50% 12x60 smd paste+0: 53(-501.97,-578.74) 54(-482.28,-578.74) 55(-462.6,-578.74) 56(-442.91,-578.74) 57(-423.23,-578.74) 58(-403.54,-578.74) 59(-383.86,-578.74) 60(-364.17,-578.74) 61(-344.49,-578.74) 62(-324.8,-578.74) 63(-305.12,-578.74) 64(-285.43,-578.74) 65(-265.75,-578.74) 66(-246.06,-578.74) 67(-226.38,-578.74) 68(-206.69,-578.74) 69(-187.01,-578.74) 70(-167.32,-578.74) 71(-147.64,-578.74) 72(-127.95,-578.74) 73(-108.27,-578.74) 74(-88.58,-578.74) 75(-68.9,-578.74) 76(-49.21,-578.74) 77(-29.53,-578.74) 78(-9.84,-578.74) 79(9.84,-578.74) 80(29.53,-578.74) 81(49.21,-578.74) 82(68.9,-578.74) 83(88.58,-578.74) 84(108.27,-578.74) 85(127.95,-578.74) 86(147.64,-578.74) 87(167.32,-578.74) 88(187.01,-578.74) 89(206.69,-578.74) 90(226.38,-578.74) 91(246.06,-578.74) 92(265.75,-578.74) 93(285.43,-578.74) 94(305.12,-578.74) 95(324.8,-578.74) 96(344.49,-578.74) 97(364.17,-578.74) 98(383.86,-578.74) 99(403.54,-578.74) 100(423.23,-578.74) 101(442.91,-578.74) 102(462.6,-578.74) 103(482.28,-578.74) 104(501.97,-578.74) 157(501.97,578.74) 158(482.28,578.74) 159(462.6,578.74) 160(442.91,578.74) 161(423.23,578.74) 162(403.54,578.74) 163(383.86,578.74) 164(364.17,578.74) 165(344.49,578.74) 166(324.8,578.74) 167(305.12,578.74) 168(285.43,578.74) 169(265.75,578.74) 170(246.06,578.74) 171(226.38,578.74) 172(206.69,578.74) 173(187.01,578.74) 174(167.32,578.74) 175(147.64,578.74) 176(127.95,578.74) 177(108.27,578.74) 178(88.58,578.74) 179(68.9,578.74) 180(49.21,578.74) 181(29.53,578.74) 182(9.84,578.74) 183(-9.84,578.74) 184(-29.53,578.74) 185(-49.21,578.74) 186(-68.9,578.74) 187(-88.58,578.74) 188(-108.27,578.74) 189(-127.95,578.74) 190(-147.64,578.74) 191(-167.32,578.74) 192(-187.01,578.74) 193(-206.69,578.74) 194(-226.38,578.74) 195(-246.06,578.74) 196(-265.75,578.74) 197(-285.43,578.74) 198(-305.12,578.74) 199(-324.8,578.74) 200(-344.49,578.74) 201(-364.17,578.74) 202(-383.86,578.74) 203(-403.54,578.74) 204(-423.23,578.74) 205(-442.91,578.74) 206(-462.6,578.74) 207(-482.28,578.74) 208(-501.97,578.74)
Top Overlay:
  drawing of 631 lines, arcs and shapes, not listed
Comp Silk:
  lines w7: -530,-530 530,-530 530,530 -530,530 -530,-530 ; -514.69,495 cw(c-495,495) -475.31,495 cw(c-495,495) -514.69,495
  text ".Designator" at -160,365 h59.06

## QSOP16 [mm]
height 1.778
pads (16):
  rrect50% 1.65x0.35 smd paste+0: 1(-2.667,2.222) 2(-2.667,1.587) 3(-2.667,0.953) 4(-2.667,0.318) 5(-2.667,-0.318) 6(-2.667,-0.953) 7(-2.667,-1.587) 8(-2.667,-2.222) 9(2.667,-2.222) 10(2.667,-1.587) 11(2.667,-0.953) 12(2.667,-0.318) 13(2.667,0.318) 14(2.667,0.953) 15(2.667,1.587) 16(2.667,2.222)
Top Overlay:
  circle w0.05: c-1.397,2.159 r0.254
  lines w0.05: -1.905,-2.362 -3.048,-2.362 -3.048,-2.083 -1.905,-2.083 ; -1.905,-1.727 -3.048,-1.727 -3.048,-1.448 -1.905,-1.448 ; -1.905,-1.092 -3.048,-1.092 -3.048,-0.813 -1.905,-0.813 ; -1.905,-0.457 -3.048,-0.457 -3.048,-0.178 -1.905,-0.178 ; -1.905,0.178 -3.048,0.178 -3.048,0.457 -1.905,0.457 ; -1.905,0.813 -3.048,0.813 -3.048,1.092 -1.905,1.092 ; -1.905,1.448 -3.048,1.448 -3.048,1.727 -1.905,1.727 ; -1.905,2.083 -3.048,2.083 -3.048,2.362 -1.905,2.362 ; 1.905,-2.362 3.048,-2.362 3.048,-2.083 1.905,-2.083 ; 1.905,-1.727 3.048,-1.727 3.048,-1.448 1.905,-1.448 ; 1.905,-1.092 3.048,-1.092 3.048,-0.813 1.905,-0.813 ; 1.905,-0.457 3.048,-0.457 3.048,-0.178 1.905,-0.178 ; 1.905,0.178 3.048,0.178 3.048,0.457 1.905,0.457 ; 1.905,0.813 3.048,0.813 3.048,1.092 1.905,1.092 ; 1.905,1.448 3.048,1.448 3.048,1.727 1.905,1.727 ; 1.905,2.083 3.048,2.083 3.048,2.362 1.905,2.362 ; -1.905,-2.54 -1.905,2.54 1.905,2.54 1.905,-2.54 -1.905,-2.54
Comp Silk:
  circle w0.18: c-1.016,2.032 r0.127
  lines w0.18: -1.524,-2.54 1.524,-2.54 1.524,2.54 -1.524,2.54 -1.524,-2.54
  text ".Designator" at -0.381,-2.159 h1.5

## Quad100 [mm]
pads (100):
  rrect50% 1.9x0.3 smd: 1(-7.6,6) 2(-7.6,5.5) 3(-7.6,5) 4(-7.6,4.5) 5(-7.6,4) 6(-7.6,3.5) 7(-7.6,3) 8(-7.6,2.5) 9(-7.6,2) 10(-7.6,1.5) 11(-7.6,1) 12(-7.6,0.5) 13(-7.6,0) 14(-7.6,-0.5) 15(-7.6,-1) 16(-7.6,-1.5) 17(-7.6,-2) 18(-7.6,-2.5) 19(-7.6,-3) 20(-7.6,-3.5) 21(-7.6,-4) 22(-7.6,-4.5) 23(-7.6,-5) 24(-7.6,-5.5) 25(-7.6,-6) 51(7.6,-6) 52(7.6,-5.5) 53(7.6,-5) 54(7.6,-4.5) 55(7.6,-4) 56(7.6,-3.5) 57(7.6,-3) 58(7.6,-2.5) 59(7.6,-2) 60(7.6,-1.5) 61(7.6,-1) 62(7.6,-0.5) 63(7.6,0) 64(7.6,0.5) 65(7.6,1) 66(7.6,1.5) 67(7.6,2) 68(7.6,2.5) 69(7.6,3) 70(7.6,3.5) 71(7.6,4) 72(7.6,4.5) 73(7.6,5) 74(7.6,5.5) 75(7.6,6)
  rrect50% 0.3x1.9 smd: 26(-6,-7.6) 27(-5.5,-7.6) 28(-5,-7.6) 29(-4.5,-7.6) 30(-4,-7.6) 31(-3.5,-7.6) 32(-3,-7.6) 33(-2.5,-7.6) 34(-2,-7.6) 35(-1.5,-7.6) 36(-1,-7.6) 37(-0.5,-7.6) 38(0,-7.6) 39(0.5,-7.6) 40(1,-7.6) 41(1.5,-7.6) 42(2,-7.6) 43(2.5,-7.6) 44(3,-7.6) 45(3.5,-7.6) 46(4,-7.6) 47(4.5,-7.6) 48(5,-7.6) 49(5.5,-7.6) 50(6,-7.6) 76(6,7.6) 77(5.5,7.6) 78(5,7.6) 79(4.5,7.6) 80(4,7.6) 81(3.5,7.6) 82(3,7.6) 83(2.5,7.6) 84(2,7.6) 85(1.5,7.6) 86(1,7.6) 87(0.5,7.6) 88(0,7.6) 89(-0.5,7.6) 90(-1,7.6) 91(-1.5,7.6) 92(-2,7.6) 93(-2.5,7.6) 94(-3,7.6) 95(-3.5,7.6) 96(-4,7.6) 97(-4.5,7.6) 98(-5,7.6) 99(-5.5,7.6) 100(-6,7.6)
Top Overlay:
  drawing of 317 lines, arcs and shapes, not listed
Comp Silk:
  lines w0.18: -6,-6 -6,5 -5,6 6,6 6,-6 -6,-6
  text ".Designator" at -6.159,3.381 h1.5

## RX2010 [mm]
height 2.54
pads (10):
  rrect50% 2.5x1.3 smd paste+0: 1(-4.318,5.08) 2(-4.318,2.54) 3(-4.318,0) 4(-4.318,-2.54) 5(-4.318,-5.08) 6(4.318,-5.08) 7(4.318,-2.54) 8(4.318,0) 9(4.318,2.54) 10(4.318,5.08)
Top Overlay:
  circle w0.05: c-3.556,5.08 r0.762
  lines w0.05: -4.826,-6.858 -4.826,6.858 4.826,6.858 4.826,-6.858 -4.826,-6.858
Comp Silk:
  circle w0.18: c-2.286,5.334 r0.508
  lines w0.18: -4.826,-6.096 -4.826,-6.858 4.826,-6.858 4.826,-6.096 ; -4.826,6.096 -4.826,6.858 4.826,6.858 4.826,6.096
  text ".Designator" at -1.397,-5.969 h1.5

## SC70-5 [mm] "Rev. 2, pad size was 0.5x0.4mm, round"
height 2.413
pads (5):
  rrect50% 0.7x0.4 smd paste+0: 1(-0.95,0.65) 2(-0.95,0) 3(-0.95,-0.65) 4(0.95,-0.65) 5(0.95,0.65)
Top Overlay:
  circle w0.05: c-0.381,0.762 r0.127
  lines w0.05: -0.635,-0.777 -1.016,-0.777 -1.016,-0.523 -0.635,-0.523 ; -0.635,-0.127 -1.016,-0.127 -1.016,0.127 -0.635,0.127 ; -0.635,0.523 -1.016,0.523 -1.016,0.777 -0.635,0.777 ; 0.635,-0.777 1.016,-0.777 1.016,-0.523 0.635,-0.523 ; 0.635,0.523 1.016,0.523 1.016,0.777 0.635,0.777 ; -0.635,-1.016 -0.635,1.016 0.635,1.016 0.635,-1.016 -0.635,-1.016
Comp Silk:
  circle w0.18: c-0.127,0.635 r0.127
  lines w0.18: -0.508,-1.016 -0.508,1.016 0.508,1.016 0.508,-1.016 -0.508,-1.016
  text ".Designator" at 0.127,-1.143 h1.5

## SC70-6 [mm]
height 2.413
pads (6):
  rrect50% 0.5x0.4 smd paste+0: 1(-0.95,0.65) 2(-0.95,0) 3(-0.95,-0.65) 4(0.95,-0.65) 5(0.95,0) 6(0.95,0.65)
Top Overlay:
  circle w0.05: c-0.381,0.762 r0.127
  lines w0.05: -0.635,-0.777 -1.016,-0.777 -1.016,-0.523 -0.635,-0.523 ; -0.635,-0.127 -1.016,-0.127 -1.016,0.127 -0.635,0.127 ; -0.635,0.523 -1.016,0.523 -1.016,0.777 -0.635,0.777 ; 0.635,-0.777 1.016,-0.777 1.016,-0.523 0.635,-0.523 ; 0.635,-0.127 1.016,-0.127 1.016,0.127 0.635,0.127 ; 0.635,0.523 1.016,0.523 1.016,0.777 0.635,0.777 ; -0.635,-1.016 0.635,-1.016 0.635,1.016 -0.635,1.016 -0.635,-1.016
Comp Silk:
  circle w0.18: c-0.127,0.635 r0.127
  lines w0.18: -0.508,-1.016 0.508,-1.016 0.508,1.016 -0.508,1.016 -0.508,-1.016
  text ".Designator" at 0.127,-1.143 h1.5